# Altium integrated library RC0402JR0710KL.IntLib: 2 symbols
Pins are listed as number, name and electrical type; pins without a type are passive.

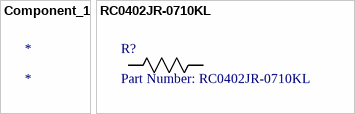
[diagram p0: symbols Component_1 to RC0402JR-0710KL]

## Component_1
designator *

## RC0402JR-0710KL
designator R?, comment Part Number: RC0402JR-0710KL
No Description Available; Vendor: Yageo; Built_By: EMA_UL_Team; Manufacturer_Part_Number: RC0402JR-0710KL; Copyright: Copyright (C) 2018 Accelerated Designs. All rights reserved; RefDes: RefDes; Type: DEV; Value: Value
footprint RC0402N
pins: 1, 2